# Altium footprint library PCB - POWER INDUCTORS - BOURNS SRN3015.PcbLib: 1 footprints
Each footprint in its own frame and in the unit in brackets; x right, y up, seen from the top. Pads: shape width x height; smd on the part's side, far side on the other; paste and mask are expansions set on the pad; w line width, h text height; cw(c..) or ccw(c..) is an arc to the next point about the centre after c.
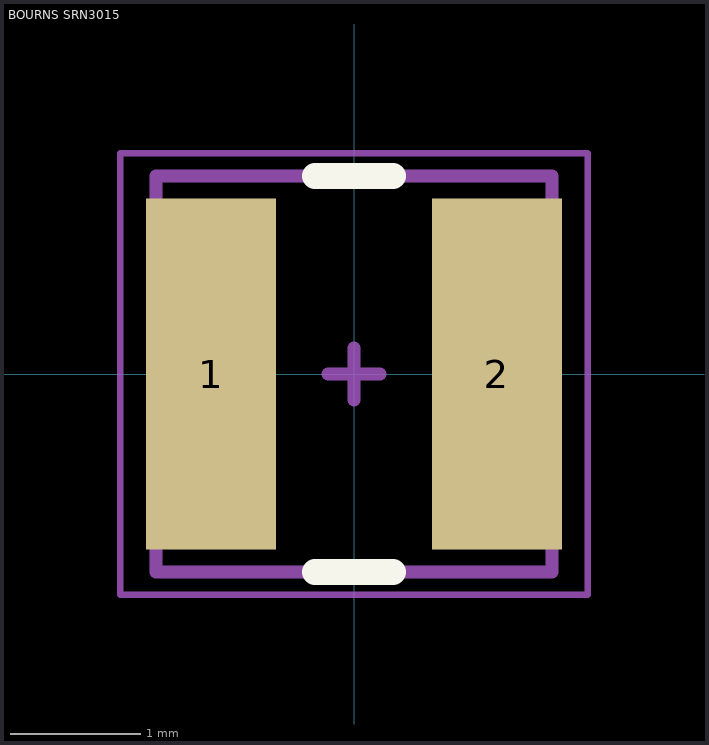
[diagram p0: the footprint, top view; thin cyan lines are the x and y axes]

## BOURNS SRN3015 [mm] "Power Inductors, 2 Leads, Bourns, SRN3015-2R2M"
height 1.5
pads (2):
  rect 1x2.7 smd: 1(-1.1,0) 2(1.1,0)
Top Overlay:
  lines w0.2: -0.3,-1.525 0.3,-1.525 ; -0.3,1.525 0.3,1.525
Mechanical 13:
  lines w0.1: -1.525,-1.525 -1.525,1.525 1.525,1.525 1.525,-1.525 -1.525,-1.525
Mechanical 15 (Mech15):
  lines w0.05: -1.8,-1.7 1.8,-1.7 1.8,1.7 -1.8,1.7 -1.8,-1.7
  lines w0.1: -0.2,0 0.2,0 ; 0,-0.2 0,0.2
3D body "Bourns - SRN3015.step": height 1.5, standoff 0, extent -1.525,-1.525 1.525,1.525